# EAGLE library part 87438-07 (library miifitjr2)
Wire-to-Board 1.50mm (.059") Pitch Header - Right Angle, SMT, Shrouded Source: http://www.molex.com/product/micro/87438.html
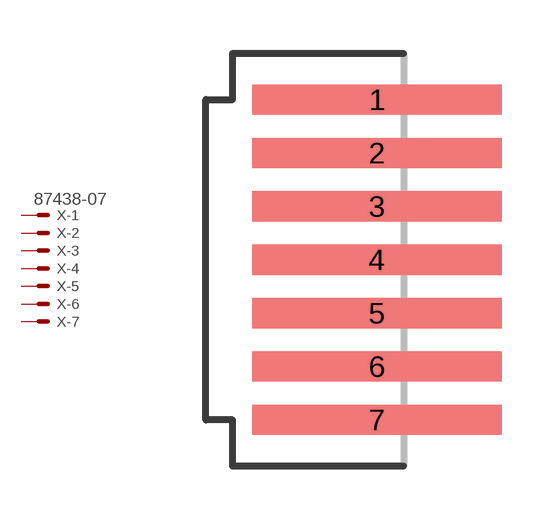
[diagram p224: symbol with the pads of 87438-07; footprint 87438-07]

Designator prefix X; gates -1=MV -2=M -3=M -4=M -5=M -6=M -7=M

## 87438-07 (MF: WALDOM/MOLEX; MPN: 87438-0733; OC_FARNELL: unknown; OC_NEWARK: 09J7507)  [87438-07]
1  -1:S  pas
2  -2:S  pas
3  -3:S  pas
4  -4:S  pas
5  -5:S  pas
6  -6:S  pas
7  -7:S  pas

## Footprint 87438-07 (pad centres in mm)
1.50mm Pitch Pico-SPOX™ Wire-to-Board Header, Surface Mount, Right Angle, Shrouded, Nylon, 7 Circuits, Embossed Tape on Reel, Beige Datasheet <http://www.molex.com/pdm_docs/sd/874380743_sd.pdf>
smd 7 x 0.85: 1 0,4.5; 2 0,3; 3 0,1.5; 4 0,0; 5 0,-1.5; 6 0,-3; 7 0,-4.5